# Altium integrated library Linear Technology Operational Amplifiers (LT1000).IntLib: 2280 symbols (part 50 of 79)
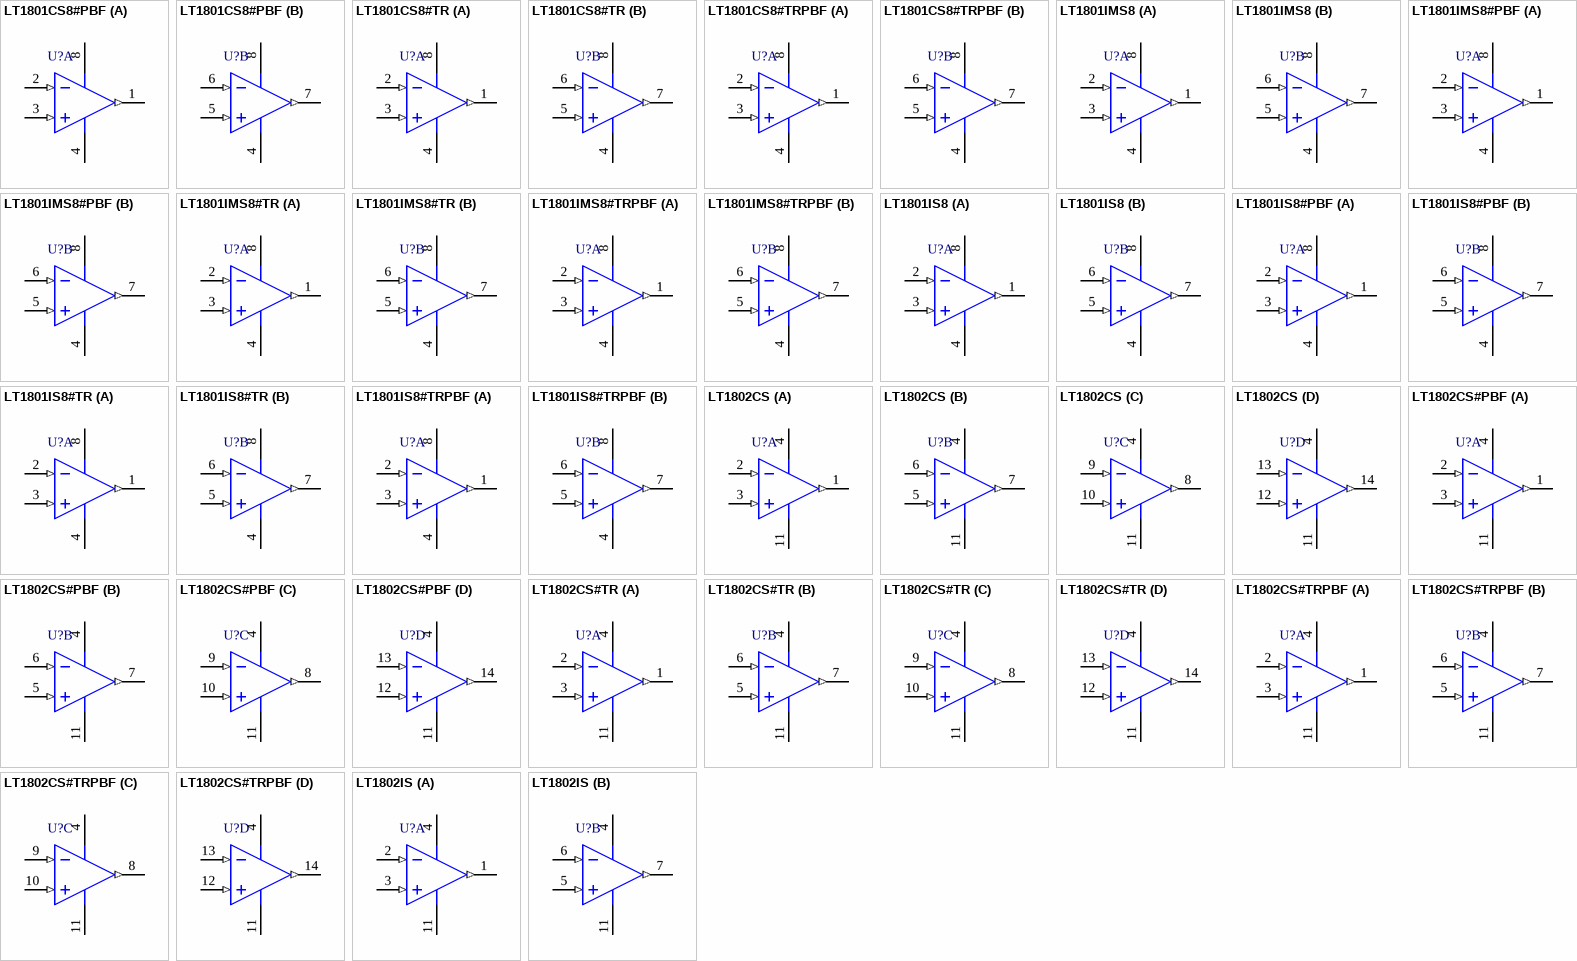
[diagram p154: symbols LT1801CS8#PBF to LT1802IS]

## LT1802CS
designator U?
Quad Channel, High Speed / Power, Precision Operational Amplifier, RRIO, 80 MHz Typical GBW, 25 V/us Typical SR, 2.3 to 12.6 V, 14-Pin SOIC (S-14), Commercial; Linear Technology Part Number: LT1802; Manufacturer: Linear Technology; PartNumber: LT1802CS; Channels (#): 4; GBW (MHz) Typical: 80; Is (mA) Typical: 1.6; SR (V/us) Typical: 25; Vos (mV) Guaranteed: 0.35; Vos (mV) Typical: 0.075; Vs Max (V): 12.6; Vs Min (V): 2.3; DatasheetVersion: Rev. C; PackageVersion: Rev G; PackageReference: LT-S-14; PackageDescription: 14-Lead Plastic Small Outline, Body 8.65 x 3.90 mm, Pitch 1.27 mm; Supplier 1: Digi-Key; Supplier Part Number 1: LT1802CS-ND; Type: VFB; Mounting Technology: Surface Mount; ComponentLink1Description: Manufacturer URL; ComponentLink1URL: http://www.linear.com/; ComponentLink2Description: Datasheet; ComponentLink2URL: http://cds.linear.com/docs/en/datasheet/18012fc.pdf; ComponentLink3Description: Package Specification; ComponentLink3URL: http://cds.linear.com/docs/en/packaging/05081610_G_S14.pdf
footprint LT-S-14_N (SOIC, 14-Leads, Body 8.65x3.90mm, Pitch 1.27mm, IPC Medium Density)
footprint LT-S-14_L (SOIC, 14-Leads, Body 8.65x3.90mm, Pitch 1.27mm, IPC High Density)
footprint LT-S-14_M (SOIC, 14-Leads, Body 8.65x3.90mm, Pitch 1.27mm, IPC Low Density)
pins on every part: 4 V+ (power), 11 V- (power)
part A pins: 1 OUT A (out), 2 -IN A (in), 3 +IN A (in)
part B pins: 5 +IN B (in), 6 -IN B (in), 7 OUT B (out)
part C pins: 8 OUT C (out), 9 -IN C (in), 10 +IN C (in)
part D pins: 12 +IN D (in), 13 -IN D (in), 14 OUT D (out)

## LT1802CS#PBF
designator U?
Quad Channel, High Speed / Power, Precision Operational Amplifier, RRIO, 80 MHz Typical GBW, 25 V/us Typical SR, 2.3 to 12.6 V, 14-Pin SOIC (S-14), Commercial, Pb-Free; Linear Technology Part Number: LT1802; Manufacturer: Linear Technology; PartNumber: LT1802CS#PBF; Channels (#): 4; GBW (MHz) Typical: 80; Is (mA) Typical: 1.6; SR (V/us) Typical: 25; Vos (mV) Guaranteed: 0.35; Vos (mV) Typical: 0.075; Vs Max (V): 12.6; Vs Min (V): 2.3; DatasheetVersion: Rev. C; PackageVersion: Rev G; PackageReference: LT-S-14; PackageDescription: 14-Lead Plastic Small Outline, Body 8.65 x 3.90 mm, Pitch 1.27 mm; Supplier 1: Digi-Key; Supplier Part Number 1: LT1802CS#PBF-ND; Supplier 2: Newark; Supplier Part Number 2: 57M6763; RoHS: Pb-Free; Type: VFB; Mounting Technology: Surface Mount; ComponentLink1Description: Manufacturer URL; ComponentLink1URL: http://www.linear.com/; ComponentLink2Description: Datasheet; ComponentLink2URL: http://cds.linear.com/docs/en/datasheet/18012fc.pdf; ComponentLink3Description: Package Specification; ComponentLink3URL: http://cds.linear.com/docs/en/packaging/05081610_G_S14.pdf
footprint LT-S-14_N (SOIC, 14-Leads, Body 8.65x3.90mm, Pitch 1.27mm, IPC Medium Density)
footprint LT-S-14_L (SOIC, 14-Leads, Body 8.65x3.90mm, Pitch 1.27mm, IPC High Density)
footprint LT-S-14_M (SOIC, 14-Leads, Body 8.65x3.90mm, Pitch 1.27mm, IPC Low Density)
pins on every part: 4 V+ (power), 11 V- (power)
part A pins: 1 OUT A (out), 2 -IN A (in), 3 +IN A (in)
part B pins: 5 +IN B (in), 6 -IN B (in), 7 OUT B (out)
part C pins: 8 OUT C (out), 9 -IN C (in), 10 +IN C (in)
part D pins: 12 +IN D (in), 13 -IN D (in), 14 OUT D (out)

## LT1802CS#TR
designator U?
Quad Channel, High Speed / Power, Precision Operational Amplifier, RRIO, 80 MHz Typical GBW, 25 V/us Typical SR, 2.3 to 12.6 V, 14-Pin SOIC (S-14), Commercial, Reel; Linear Technology Part Number: LT1802; Manufacturer: Linear Technology; PartNumber: LT1802CS#TR; Channels (#): 4; GBW (MHz) Typical: 80; Is (mA) Typical: 1.6; SR (V/us) Typical: 25; Vos (mV) Guaranteed: 0.35; Vos (mV) Typical: 0.075; Vs Max (V): 12.6; Vs Min (V): 2.3; DatasheetVersion: Rev. C; PackageVersion: Rev G; PackageReference: LT-S-14; PackageDescription: 14-Lead Plastic Small Outline, Body 8.65 x 3.90 mm, Pitch 1.27 mm; Supplier 1: Digi-Key; Supplier Part Number 1: LT1802CSTR-ND; Packing: Reel; Type: VFB; Mounting Technology: Surface Mount; ComponentLink1Description: Manufacturer URL; ComponentLink1URL: http://www.linear.com/; ComponentLink2Description: Datasheet; ComponentLink2URL: http://cds.linear.com/docs/en/datasheet/18012fc.pdf; ComponentLink3Description: Package Specification; ComponentLink3URL: http://cds.linear.com/docs/en/packaging/05081610_G_S14.pdf
footprint LT-S-14_N (SOIC, 14-Leads, Body 8.65x3.90mm, Pitch 1.27mm, IPC Medium Density)
footprint LT-S-14_L (SOIC, 14-Leads, Body 8.65x3.90mm, Pitch 1.27mm, IPC High Density)
footprint LT-S-14_M (SOIC, 14-Leads, Body 8.65x3.90mm, Pitch 1.27mm, IPC Low Density)
pins on every part: 4 V+ (power), 11 V- (power)
part A pins: 1 OUT A (out), 2 -IN A (in), 3 +IN A (in)
part B pins: 5 +IN B (in), 6 -IN B (in), 7 OUT B (out)
part C pins: 8 OUT C (out), 9 -IN C (in), 10 +IN C (in)
part D pins: 12 +IN D (in), 13 -IN D (in), 14 OUT D (out)

## LT1802CS#TRPBF
designator U?
Quad Channel, High Speed / Power, Precision Operational Amplifier, RRIO, 80 MHz Typical GBW, 25 V/us Typical SR, 2.3 to 12.6 V, 14-Pin SOIC (S-14), Commercial, Pb-Free, Reel; Linear Technology Part Number: LT1802; Manufacturer: Linear Technology; PartNumber: LT1802CS#TRPBF; Channels (#): 4; GBW (MHz) Typical: 80; Is (mA) Typical: 1.6; SR (V/us) Typical: 25; Vos (mV) Guaranteed: 0.35; Vos (mV) Typical: 0.075; Vs Max (V): 12.6; Vs Min (V): 2.3; DatasheetVersion: Rev. C; PackageVersion: Rev G; PackageReference: LT-S-14; PackageDescription: 14-Lead Plastic Small Outline, Body 8.65 x 3.90 mm, Pitch 1.27 mm; Supplier 1: Digi-Key; Supplier Part Number 1: LT1802CS#TRPBF-ND; Packing: Reel; RoHS: Pb-Free; Type: VFB; Mounting Technology: Surface Mount; ComponentLink1Description: Manufacturer URL; ComponentLink1URL: http://www.linear.com/; ComponentLink2Description: Datasheet; ComponentLink2URL: http://cds.linear.com/docs/en/datasheet/18012fc.pdf; ComponentLink3Description: Package Specification; ComponentLink3URL: http://cds.linear.com/docs/en/packaging/05081610_G_S14.pdf
footprint LT-S-14_N (SOIC, 14-Leads, Body 8.65x3.90mm, Pitch 1.27mm, IPC Medium Density)
footprint LT-S-14_L (SOIC, 14-Leads, Body 8.65x3.90mm, Pitch 1.27mm, IPC High Density)
footprint LT-S-14_M (SOIC, 14-Leads, Body 8.65x3.90mm, Pitch 1.27mm, IPC Low Density)
pins on every part: 4 V+ (power), 11 V- (power)
part A pins: 1 OUT A (out), 2 -IN A (in), 3 +IN A (in)
part B pins: 5 +IN B (in), 6 -IN B (in), 7 OUT B (out)
part C pins: 8 OUT C (out), 9 -IN C (in), 10 +IN C (in)
part D pins: 12 +IN D (in), 13 -IN D (in), 14 OUT D (out)

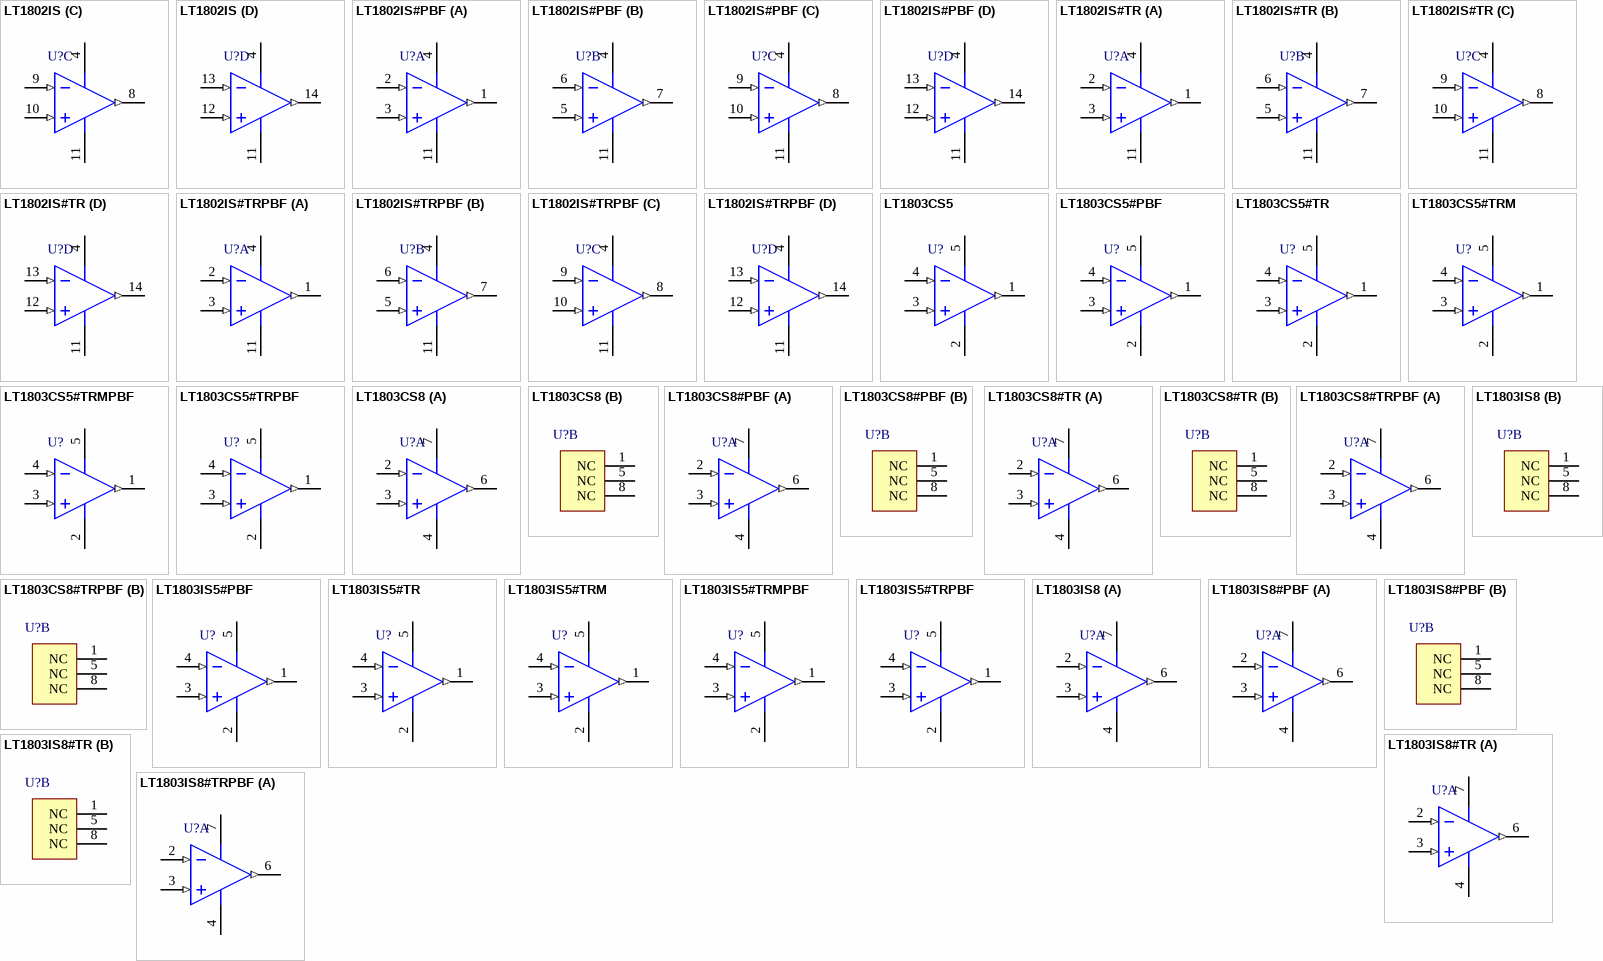
[diagram p77: symbols LT1802IS to LT1803IS8#TRPBF]

## LT1802IS
designator U?
Quad Channel, High Speed / Power, Precision Operational Amplifier, RRIO, 80 MHz Typical GBW, 25 V/us Typical SR, 2.3 to 12.6 V, 14-Pin SOIC (S-14), Industrial; Linear Technology Part Number: LT1802; Manufacturer: Linear Technology; PartNumber: LT1802IS; Channels (#): 4; GBW (MHz) Typical: 80; Is (mA) Typical: 1.6; SR (V/us) Typical: 25; Vos (mV) Guaranteed: 0.35; Vos (mV) Typical: 0.075; Vs Max (V): 12.6; Vs Min (V): 2.3; DatasheetVersion: Rev. C; PackageVersion: Rev G; PackageReference: LT-S-14; PackageDescription: 14-Lead Plastic Small Outline, Body 8.65 x 3.90 mm, Pitch 1.27 mm; Supplier 1: Digi-Key; Supplier Part Number 1: LT1802IS-ND; Type: VFB; Mounting Technology: Surface Mount; ComponentLink1Description: Manufacturer URL; ComponentLink1URL: http://www.linear.com/; ComponentLink2Description: Datasheet; ComponentLink2URL: http://cds.linear.com/docs/en/datasheet/18012fc.pdf; ComponentLink3Description: Package Specification; ComponentLink3URL: http://cds.linear.com/docs/en/packaging/05081610_G_S14.pdf
footprint LT-S-14_N (SOIC, 14-Leads, Body 8.65x3.90mm, Pitch 1.27mm, IPC Medium Density)
footprint LT-S-14_L (SOIC, 14-Leads, Body 8.65x3.90mm, Pitch 1.27mm, IPC High Density)
footprint LT-S-14_M (SOIC, 14-Leads, Body 8.65x3.90mm, Pitch 1.27mm, IPC Low Density)
pins on every part: 4 V+ (power), 11 V- (power)
part A pins: 1 OUT A (out), 2 -IN A (in), 3 +IN A (in)
part B pins: 5 +IN B (in), 6 -IN B (in), 7 OUT B (out)
part C pins: 8 OUT C (out), 9 -IN C (in), 10 +IN C (in)
part D pins: 12 +IN D (in), 13 -IN D (in), 14 OUT D (out)

## LT1802IS#PBF
designator U?
Quad Channel, High Speed / Power, Precision Operational Amplifier, RRIO, 80 MHz Typical GBW, 25 V/us Typical SR, 2.3 to 12.6 V, 14-Pin SOIC (S-14), Industrial, Pb-Free; Linear Technology Part Number: LT1802; Manufacturer: Linear Technology; PartNumber: LT1802IS#PBF; Channels (#): 4; GBW (MHz) Typical: 80; Is (mA) Typical: 1.6; SR (V/us) Typical: 25; Vos (mV) Guaranteed: 0.35; Vos (mV) Typical: 0.075; Vs Max (V): 12.6; Vs Min (V): 2.3; DatasheetVersion: Rev. C; PackageVersion: Rev G; PackageReference: LT-S-14; PackageDescription: 14-Lead Plastic Small Outline, Body 8.65 x 3.90 mm, Pitch 1.27 mm; Supplier 1: Digi-Key; Supplier Part Number 1: LT1802IS#PBF-ND; Supplier 2: Newark; Supplier Part Number 2: 57M6767; RoHS: Pb-Free; Type: VFB; Mounting Technology: Surface Mount; ComponentLink1Description: Manufacturer URL; ComponentLink1URL: http://www.linear.com/; ComponentLink2Description: Datasheet; ComponentLink2URL: http://cds.linear.com/docs/en/datasheet/18012fc.pdf; ComponentLink3Description: Package Specification; ComponentLink3URL: http://cds.linear.com/docs/en/packaging/05081610_G_S14.pdf
footprint LT-S-14_N (SOIC, 14-Leads, Body 8.65x3.90mm, Pitch 1.27mm, IPC Medium Density)
footprint LT-S-14_L (SOIC, 14-Leads, Body 8.65x3.90mm, Pitch 1.27mm, IPC High Density)
footprint LT-S-14_M (SOIC, 14-Leads, Body 8.65x3.90mm, Pitch 1.27mm, IPC Low Density)
pins on every part: 4 V+ (power), 11 V- (power)
part A pins: 1 OUT A (out), 2 -IN A (in), 3 +IN A (in)
part B pins: 5 +IN B (in), 6 -IN B (in), 7 OUT B (out)
part C pins: 8 OUT C (out), 9 -IN C (in), 10 +IN C (in)
part D pins: 12 +IN D (in), 13 -IN D (in), 14 OUT D (out)

## LT1802IS#TR
designator U?
Quad Channel, High Speed / Power, Precision Operational Amplifier, RRIO, 80 MHz Typical GBW, 25 V/us Typical SR, 2.3 to 12.6 V, 14-Pin SOIC (S-14), Industrial, Reel; Linear Technology Part Number: LT1802; Manufacturer: Linear Technology; PartNumber: LT1802IS#TR; Channels (#): 4; GBW (MHz) Typical: 80; Is (mA) Typical: 1.6; SR (V/us) Typical: 25; Vos (mV) Guaranteed: 0.35; Vos (mV) Typical: 0.075; Vs Max (V): 12.6; Vs Min (V): 2.3; DatasheetVersion: Rev. C; PackageVersion: Rev G; PackageReference: LT-S-14; PackageDescription: 14-Lead Plastic Small Outline, Body 8.65 x 3.90 mm, Pitch 1.27 mm; Supplier 1: Digi-Key; Supplier Part Number 1: LT1802ISTR-ND; Packing: Reel; Type: VFB; Mounting Technology: Surface Mount; ComponentLink1Description: Manufacturer URL; ComponentLink1URL: http://www.linear.com/; ComponentLink2Description: Datasheet; ComponentLink2URL: http://cds.linear.com/docs/en/datasheet/18012fc.pdf; ComponentLink3Description: Package Specification; ComponentLink3URL: http://cds.linear.com/docs/en/packaging/05081610_G_S14.pdf
footprint LT-S-14_N (SOIC, 14-Leads, Body 8.65x3.90mm, Pitch 1.27mm, IPC Medium Density)
footprint LT-S-14_L (SOIC, 14-Leads, Body 8.65x3.90mm, Pitch 1.27mm, IPC High Density)
footprint LT-S-14_M (SOIC, 14-Leads, Body 8.65x3.90mm, Pitch 1.27mm, IPC Low Density)
pins on every part: 4 V+ (power), 11 V- (power)
part A pins: 1 OUT A (out), 2 -IN A (in), 3 +IN A (in)
part B pins: 5 +IN B (in), 6 -IN B (in), 7 OUT B (out)
part C pins: 8 OUT C (out), 9 -IN C (in), 10 +IN C (in)
part D pins: 12 +IN D (in), 13 -IN D (in), 14 OUT D (out)

## LT1802IS#TRPBF
designator U?
Quad Channel, High Speed / Power, Precision Operational Amplifier, RRIO, 80 MHz Typical GBW, 25 V/us Typical SR, 2.3 to 12.6 V, 14-Pin SOIC (S-14), Industrial, Pb-Free, Reel; Linear Technology Part Number: LT1802; Manufacturer: Linear Technology; PartNumber: LT1802IS#TRPBF; Channels (#): 4; GBW (MHz) Typical: 80; Is (mA) Typical: 1.6; SR (V/us) Typical: 25; Vos (mV) Guaranteed: 0.35; Vos (mV) Typical: 0.075; Vs Max (V): 12.6; Vs Min (V): 2.3; DatasheetVersion: Rev. C; PackageVersion: Rev G; PackageReference: LT-S-14; PackageDescription: 14-Lead Plastic Small Outline, Body 8.65 x 3.90 mm, Pitch 1.27 mm; Supplier 1: Digi-Key; Supplier Part Number 1: LT1802IS#TRPBF-ND; Supplier 2: Newark; Supplier Part Number 2: 57M6769; Packing: Reel; RoHS: Pb-Free; Type: VFB; Mounting Technology: Surface Mount; ComponentLink1Description: Manufacturer URL; ComponentLink1URL: http://www.linear.com/; ComponentLink2Description: Datasheet; ComponentLink2URL: http://cds.linear.com/docs/en/datasheet/18012fc.pdf; ComponentLink3Description: Package Specification; ComponentLink3URL: http://cds.linear.com/docs/en/packaging/05081610_G_S14.pdf
footprint LT-S-14_N (SOIC, 14-Leads, Body 8.65x3.90mm, Pitch 1.27mm, IPC Medium Density)
footprint LT-S-14_L (SOIC, 14-Leads, Body 8.65x3.90mm, Pitch 1.27mm, IPC High Density)
footprint LT-S-14_M (SOIC, 14-Leads, Body 8.65x3.90mm, Pitch 1.27mm, IPC Low Density)
pins on every part: 4 V+ (power), 11 V- (power)
part A pins: 1 OUT A (out), 2 -IN A (in), 3 +IN A (in)
part B pins: 5 +IN B (in), 6 -IN B (in), 7 OUT B (out)
part C pins: 8 OUT C (out), 9 -IN C (in), 10 +IN C (in)
part D pins: 12 +IN D (in), 13 -IN D (in), 14 OUT D (out)

## LT1803CS5
designator U?
Single Channel, High Speed Precision Operational Amplifier, RRIO, 83 MHz Typical GBW, 100 V/us Typical SR, 2.3 to 12.6 V, 5-Pin SOT23 (S5-5), Commercial; Linear Technology Part Number: LT1803; Manufacturer: Linear Technology; PartNumber: LT1803CS5; Channels (#): 1; GBW (MHz) Typical: 83; Is (mA) Typical: 2.7; SR (V/us) Typical: 100; Vos (mV) Guaranteed: 2; Vos (mV) Typical: 0.35; Vs Max (V): 12.6; Vs Min (V): 2.3; PackageReference: LT-S5-5-TSOT-23; PackageDescription: 5-Lead Plastic TSOT-23, Body 1.63 x 2.90 mm, Pitch 0.95 mm; Type: VFB; Mounting Technology: Surface Mount; Code_JEDEC: MO-193; ComponentLink1Description: Manufacturer URL; ComponentLink1URL: http://www.linear.com/; ComponentLink2Description: Datasheet; ComponentLink2URL: http://cds.linear.com/docs/en/datasheet/180345f.pdf; ComponentLink3Description: Package Specification; ComponentLink3URL: http://cds.linear.com/docs/en/packaging/SOT_5_05-08-1635.pdf
footprint LT-S5-5-TSOT-23_N (SOT23, 5-Leads, Body 2.90x1.63mm, Pitch 0.95mm, IPC Medium Density)
footprint LT-S5-5-TSOT-23_L (SOT23, 5-Leads, Body 2.90x1.63mm, Pitch 0.95mm, IPC High Density)
footprint LT-S5-5-TSOT-23_M (SOT23, 5-Leads, Body 2.90x1.63mm, Pitch 0.95mm, IPC Low Density)
pins: 1 VOUT (out) "Output.", 2 V- (power) "Negative Supply Voltage, Usually -5V.", 3 +IN (in) "Noninverting Input.", 4 -IN (in) "Inverting Input.", 5 V+ (power) "Positive Supply Voltage, Usually 5V."

## LT1803CS5#PBF
designator U?
Single Channel, High Speed Precision Operational Amplifier, RRIO, 83 MHz Typical GBW, 100 V/us Typical SR, 2.3 to 12.6 V, 5-Pin SOT23 (S5-5), Commercial, Pb-Free; Linear Technology Part Number: LT1803; Manufacturer: Linear Technology; PartNumber: LT1803CS5#PBF; Channels (#): 1; GBW (MHz) Typical: 83; Is (mA) Typical: 2.7; SR (V/us) Typical: 100; Vos (mV) Guaranteed: 2; Vos (mV) Typical: 0.35; Vs Max (V): 12.6; Vs Min (V): 2.3; PackageReference: LT-S5-5-TSOT-23; PackageDescription: 5-Lead Plastic TSOT-23, Body 1.63 x 2.90 mm, Pitch 0.95 mm; RoHS: Pb-Free; Type: VFB; Mounting Technology: Surface Mount; Code_JEDEC: MO-193; ComponentLink1Description: Manufacturer URL; ComponentLink1URL: http://www.linear.com/; ComponentLink2Description: Datasheet; ComponentLink2URL: http://cds.linear.com/docs/en/datasheet/180345f.pdf; ComponentLink3Description: Package Specification; ComponentLink3URL: http://cds.linear.com/docs/en/packaging/SOT_5_05-08-1635.pdf
footprint LT-S5-5-TSOT-23_N (SOT23, 5-Leads, Body 2.90x1.63mm, Pitch 0.95mm, IPC Medium Density)
footprint LT-S5-5-TSOT-23_L (SOT23, 5-Leads, Body 2.90x1.63mm, Pitch 0.95mm, IPC High Density)
footprint LT-S5-5-TSOT-23_M (SOT23, 5-Leads, Body 2.90x1.63mm, Pitch 0.95mm, IPC Low Density)
pins: 1 VOUT (out) "Output.", 2 V- (power) "Negative Supply Voltage, Usually -5V.", 3 +IN (in) "Noninverting Input.", 4 -IN (in) "Inverting Input.", 5 V+ (power) "Positive Supply Voltage, Usually 5V."

## LT1803CS5#TR
designator U?
Single Channel, High Speed Precision Operational Amplifier, RRIO, 83 MHz Typical GBW, 100 V/us Typical SR, 2.3 to 12.6 V, 5-Pin SOT23 (S5-5), Commercial, Reel; Linear Technology Part Number: LT1803; Manufacturer: Linear Technology; PartNumber: LT1803CS5#TR; Channels (#): 1; GBW (MHz) Typical: 83; Is (mA) Typical: 2.7; SR (V/us) Typical: 100; Vos (mV) Guaranteed: 2; Vos (mV) Typical: 0.35; Vs Max (V): 12.6; Vs Min (V): 2.3; PackageReference: LT-S5-5-TSOT-23; PackageDescription: 5-Lead Plastic TSOT-23, Body 1.63 x 2.90 mm, Pitch 0.95 mm; Supplier 1: Digi-Key; Supplier Part Number 1: LT1803CS5#TR-ND; Packing: Reel; Type: VFB; Mounting Technology: Surface Mount; Code_JEDEC: MO-193; ComponentLink1Description: Manufacturer URL; ComponentLink1URL: http://www.linear.com/; ComponentLink2Description: Datasheet; ComponentLink2URL: http://cds.linear.com/docs/en/datasheet/180345f.pdf; ComponentLink3Description: Package Specification; ComponentLink3URL: http://cds.linear.com/docs/en/packaging/SOT_5_05-08-1635.pdf
footprint LT-S5-5-TSOT-23_N (SOT23, 5-Leads, Body 2.90x1.63mm, Pitch 0.95mm, IPC Medium Density)
footprint LT-S5-5-TSOT-23_L (SOT23, 5-Leads, Body 2.90x1.63mm, Pitch 0.95mm, IPC High Density)
footprint LT-S5-5-TSOT-23_M (SOT23, 5-Leads, Body 2.90x1.63mm, Pitch 0.95mm, IPC Low Density)
pins: 1 VOUT (out) "Output.", 2 V- (power) "Negative Supply Voltage, Usually -5V.", 3 +IN (in) "Noninverting Input.", 4 -IN (in) "Inverting Input.", 5 V+ (power) "Positive Supply Voltage, Usually 5V."

## LT1803CS5#TRM
designator U?
Single Channel, High Speed Precision Operational Amplifier, RRIO, 83 MHz Typical GBW, 100 V/us Typical SR, 2.3 to 12.6 V, 5-Pin SOT23 (S5-5), Commercial, Mini Reel; Linear Technology Part Number: LT1803; Manufacturer: Linear Technology; PartNumber: LT1803CS5#TRM; Channels (#): 1; GBW (MHz) Typical: 83; Is (mA) Typical: 2.7; SR (V/us) Typical: 100; Vos (mV) Guaranteed: 2; Vos (mV) Typical: 0.35; Vs Max (V): 12.6; Vs Min (V): 2.3; PackageReference: LT-S5-5-TSOT-23; PackageDescription: 5-Lead Plastic TSOT-23, Body 1.63 x 2.90 mm, Pitch 0.95 mm; Supplier 1: Digi-Key; Supplier Part Number 1: LT1803CS5#TRMTR-ND; Supplier 2: Digi-Key; Supplier Part Number 2: LT1803CS5#TRMCT-ND; Packing: Mini Reel; Type: VFB; Mounting Technology: Surface Mount; Code_JEDEC: MO-193; ComponentLink1Description: Manufacturer URL; ComponentLink1URL: http://www.linear.com/; ComponentLink2Description: Datasheet; ComponentLink2URL: http://cds.linear.com/docs/en/datasheet/180345f.pdf; ComponentLink3Description: Package Specification; ComponentLink3URL: http://cds.linear.com/docs/en/packaging/SOT_5_05-08-1635.pdf
footprint LT-S5-5-TSOT-23_N (SOT23, 5-Leads, Body 2.90x1.63mm, Pitch 0.95mm, IPC Medium Density)
footprint LT-S5-5-TSOT-23_L (SOT23, 5-Leads, Body 2.90x1.63mm, Pitch 0.95mm, IPC High Density)
footprint LT-S5-5-TSOT-23_M (SOT23, 5-Leads, Body 2.90x1.63mm, Pitch 0.95mm, IPC Low Density)
pins: 1 VOUT (out) "Output.", 2 V- (power) "Negative Supply Voltage, Usually -5V.", 3 +IN (in) "Noninverting Input.", 4 -IN (in) "Inverting Input.", 5 V+ (power) "Positive Supply Voltage, Usually 5V."

## LT1803CS5#TRMPBF
designator U?
Single Channel, High Speed Precision Operational Amplifier, RRIO, 83 MHz Typical GBW, 100 V/us Typical SR, 2.3 to 12.6 V, 5-Pin SOT23 (S5-5), Commercial, Pb-Free, Mini Reel; Linear Technology Part Number: LT1803; Manufacturer: Linear Technology; PartNumber: LT1803CS5#TRMPBF; Channels (#): 1; GBW (MHz) Typical: 83; Is (mA) Typical: 2.7; SR (V/us) Typical: 100; Vos (mV) Guaranteed: 2; Vos (mV) Typical: 0.35; Vs Max (V): 12.6; Vs Min (V): 2.3; PackageReference: LT-S5-5-TSOT-23; PackageDescription: 5-Lead Plastic TSOT-23, Body 1.63 x 2.90 mm, Pitch 0.95 mm; Supplier 1: Digi-Key; Supplier Part Number 1: LT1803CS5#TRMPBFTR-ND; Supplier 2: Digi-Key; Supplier Part Number 2: LT1803CS5#TRMPBFCT-ND; Supplier 3: Digi-Key; Supplier Part Number 3: LT1803CS5#TRMPBFDKR-ND; Supplier 4: Farnell; Supplier Part Number 4: 1663797; Supplier 5: Newark; Supplier Part Number 5: 57M6772; Packing: Mini Reel; RoHS: Pb-Free; Type: VFB; Mounting Technology: Surface Mount; Code_JEDEC: MO-193; ComponentLink1Description: Manufacturer URL; ComponentLink1URL: http://www.linear.com/; ComponentLink2Description: Datasheet; ComponentLink2URL: http://cds.linear.com/docs/en/datasheet/180345f.pdf; ComponentLink3Description: Package Specification; ComponentLink3URL: http://cds.linear.com/docs/en/packaging/SOT_5_05-08-1635.pdf
footprint LT-S5-5-TSOT-23_N (SOT23, 5-Leads, Body 2.90x1.63mm, Pitch 0.95mm, IPC Medium Density)
footprint LT-S5-5-TSOT-23_L (SOT23, 5-Leads, Body 2.90x1.63mm, Pitch 0.95mm, IPC High Density)
footprint LT-S5-5-TSOT-23_M (SOT23, 5-Leads, Body 2.90x1.63mm, Pitch 0.95mm, IPC Low Density)
pins: 1 VOUT (out) "Output.", 2 V- (power) "Negative Supply Voltage, Usually -5V.", 3 +IN (in) "Noninverting Input.", 4 -IN (in) "Inverting Input.", 5 V+ (power) "Positive Supply Voltage, Usually 5V."

## LT1803CS5#TRPBF
designator U?
Single Channel, High Speed Precision Operational Amplifier, RRIO, 83 MHz Typical GBW, 100 V/us Typical SR, 2.3 to 12.6 V, 5-Pin SOT23 (S5-5), Commercial, Pb-Free, Reel; Linear Technology Part Number: LT1803; Manufacturer: Linear Technology; PartNumber: LT1803CS5#TRPBF; Channels (#): 1; GBW (MHz) Typical: 83; Is (mA) Typical: 2.7; SR (V/us) Typical: 100; Vos (mV) Guaranteed: 2; Vos (mV) Typical: 0.35; Vs Max (V): 12.6; Vs Min (V): 2.3; PackageReference: LT-S5-5-TSOT-23; PackageDescription: 5-Lead Plastic TSOT-23, Body 1.63 x 2.90 mm, Pitch 0.95 mm; Supplier 1: Digi-Key; Supplier Part Number 1: LT1803CS5#TRPBF-ND; Packing: Reel; RoHS: Pb-Free; Type: VFB; Mounting Technology: Surface Mount; Code_JEDEC: MO-193; ComponentLink1Description: Manufacturer URL; ComponentLink1URL: http://www.linear.com/; ComponentLink2Description: Datasheet; ComponentLink2URL: http://cds.linear.com/docs/en/datasheet/180345f.pdf; ComponentLink3Description: Package Specification; ComponentLink3URL: http://cds.linear.com/docs/en/packaging/SOT_5_05-08-1635.pdf
footprint LT-S5-5-TSOT-23_N (SOT23, 5-Leads, Body 2.90x1.63mm, Pitch 0.95mm, IPC Medium Density)
footprint LT-S5-5-TSOT-23_L (SOT23, 5-Leads, Body 2.90x1.63mm, Pitch 0.95mm, IPC High Density)
footprint LT-S5-5-TSOT-23_M (SOT23, 5-Leads, Body 2.90x1.63mm, Pitch 0.95mm, IPC Low Density)
pins: 1 VOUT (out) "Output.", 2 V- (power) "Negative Supply Voltage, Usually -5V.", 3 +IN (in) "Noninverting Input.", 4 -IN (in) "Inverting Input.", 5 V+ (power) "Positive Supply Voltage, Usually 5V."

## LT1803CS8
designator U?
Single Channel, High Speed Precision Operational Amplifier, RRIO, 83 MHz Typical GBW, 100 V/us Typical SR, 2.3 to 12.6 V, 8-Pin SOIC (S8-8), Commercial; Linear Technology Part Number: LT1803; Manufacturer: Linear Technology; PartNumber: LT1803CS8; Channels (#): 1; GBW (MHz) Typical: 83; Is (mA) Typical: 2.7; SR (V/us) Typical: 100; Vos (mV) Guaranteed: 2; Vos (mV) Typical: 0.35; Vs Max (V): 12.6; Vs Min (V): 2.3; PackageVersion: Rev G; PackageReference: LT-S8-8; PackageDescription: 8-Pin Plastic Small Outline, Body 4.9 x 3.9 mm, Pitch 1.27 mm; Supplier 1: Digi-Key; Supplier Part Number 1: LT1803CS8-ND; Type: VFB; Mounting Technology: Surface Mount; ComponentLink1Description: Manufacturer URL; ComponentLink1URL: http://www.linear.com/; ComponentLink2Description: Datasheet; ComponentLink2URL: http://cds.linear.com/docs/en/datasheet/180345f.pdf; ComponentLink3Description: Package Specification; ComponentLink3URL: http://cds.linear.com/docs/en/packaging/05081610_G_SO8.pdf
footprint LT-S8-8_N (SOIC, 8-Leads, Body 4.9x3.9mm, Pitch 1.27mm, IPC Medium Density)
footprint LT-S8-8_L (SOIC, 8-Leads, Body 4.9x3.9mm, Pitch 1.27mm, IPC High Density)
footprint LT-S8-8_M (SOIC, 8-Leads, Body 4.9x3.9mm, Pitch 1.27mm, IPC Low Density)
part A pins: 2 -IN (in), 3 +IN (in), 4 V- (power), 6 VOUT (out), 7 V+ (power)
part B pins: 1 NC, 5 NC, 8 NC

## LT1803CS8#PBF
designator U?
Single Channel, High Speed Precision Operational Amplifier, RRIO, 83 MHz Typical GBW, 100 V/us Typical SR, 2.3 to 12.6 V, 8-Pin SOIC (S8-8), Commercial, Pb-Free; Linear Technology Part Number: LT1803; Manufacturer: Linear Technology; PartNumber: LT1803CS8#PBF; Channels (#): 1; GBW (MHz) Typical: 83; Is (mA) Typical: 2.7; SR (V/us) Typical: 100; Vos (mV) Guaranteed: 2; Vos (mV) Typical: 0.35; Vs Max (V): 12.6; Vs Min (V): 2.3; PackageVersion: Rev G; PackageReference: LT-S8-8; PackageDescription: 8-Pin Plastic Small Outline, Body 4.9 x 3.9 mm, Pitch 1.27 mm; Supplier 1: Digi-Key; Supplier Part Number 1: LT1803CS8#PBF-ND; RoHS: Pb-Free; Type: VFB; Mounting Technology: Surface Mount; ComponentLink1Description: Manufacturer URL; ComponentLink1URL: http://www.linear.com/; ComponentLink2Description: Datasheet; ComponentLink2URL: http://cds.linear.com/docs/en/datasheet/180345f.pdf; ComponentLink3Description: Package Specification; ComponentLink3URL: http://cds.linear.com/docs/en/packaging/05081610_G_SO8.pdf
footprint LT-S8-8_N (SOIC, 8-Leads, Body 4.9x3.9mm, Pitch 1.27mm, IPC Medium Density)
footprint LT-S8-8_L (SOIC, 8-Leads, Body 4.9x3.9mm, Pitch 1.27mm, IPC High Density)
footprint LT-S8-8_M (SOIC, 8-Leads, Body 4.9x3.9mm, Pitch 1.27mm, IPC Low Density)
part A pins: 2 -IN (in), 3 +IN (in), 4 V- (power), 6 VOUT (out), 7 V+ (power)
part B pins: 1 NC, 5 NC, 8 NC

## LT1803CS8#TR
designator U?
Single Channel, High Speed Precision Operational Amplifier, RRIO, 83 MHz Typical GBW, 100 V/us Typical SR, 2.3 to 12.6 V, 8-Pin SOIC (S8-8), Commercial, Reel; Linear Technology Part Number: LT1803; Manufacturer: Linear Technology; PartNumber: LT1803CS8#TR; Channels (#): 1; GBW (MHz) Typical: 83; Is (mA) Typical: 2.7; SR (V/us) Typical: 100; Vos (mV) Guaranteed: 2; Vos (mV) Typical: 0.35; Vs Max (V): 12.6; Vs Min (V): 2.3; PackageVersion: Rev G; PackageReference: LT-S8-8; PackageDescription: 8-Pin Plastic Small Outline, Body 4.9 x 3.9 mm, Pitch 1.27 mm; Supplier 1: Digi-Key; Supplier Part Number 1: LT1803CS8#TR-ND; Packing: Reel; Type: VFB; Mounting Technology: Surface Mount; ComponentLink1Description: Manufacturer URL; ComponentLink1URL: http://www.linear.com/; ComponentLink2Description: Datasheet; ComponentLink2URL: http://cds.linear.com/docs/en/datasheet/180345f.pdf; ComponentLink3Description: Package Specification; ComponentLink3URL: http://cds.linear.com/docs/en/packaging/05081610_G_SO8.pdf
footprint LT-S8-8_N (SOIC, 8-Leads, Body 4.9x3.9mm, Pitch 1.27mm, IPC Medium Density)
footprint LT-S8-8_L (SOIC, 8-Leads, Body 4.9x3.9mm, Pitch 1.27mm, IPC High Density)
footprint LT-S8-8_M (SOIC, 8-Leads, Body 4.9x3.9mm, Pitch 1.27mm, IPC Low Density)
part A pins: 2 -IN (in), 3 +IN (in), 4 V- (power), 6 VOUT (out), 7 V+ (power)
part B pins: 1 NC, 5 NC, 8 NC

## LT1803CS8#TRPBF
designator U?
Single Channel, High Speed Precision Operational Amplifier, RRIO, 83 MHz Typical GBW, 100 V/us Typical SR, 2.3 to 12.6 V, 8-Pin SOIC (S8-8), Commercial, Pb-Free, Reel; Linear Technology Part Number: LT1803; Manufacturer: Linear Technology; PartNumber: LT1803CS8#TRPBF; Channels (#): 1; GBW (MHz) Typical: 83; Is (mA) Typical: 2.7; SR (V/us) Typical: 100; Vos (mV) Guaranteed: 2; Vos (mV) Typical: 0.35; Vs Max (V): 12.6; Vs Min (V): 2.3; PackageVersion: Rev G; PackageReference: LT-S8-8; PackageDescription: 8-Pin Plastic Small Outline, Body 4.9 x 3.9 mm, Pitch 1.27 mm; Supplier 1: Digi-Key; Supplier Part Number 1: LT1803CS8#TRPBF-ND; Packing: Reel; RoHS: Pb-Free; Type: VFB; Mounting Technology: Surface Mount; ComponentLink1Description: Manufacturer URL; ComponentLink1URL: http://www.linear.com/; ComponentLink2Description: Datasheet; ComponentLink2URL: http://cds.linear.com/docs/en/datasheet/180345f.pdf; ComponentLink3Description: Package Specification; ComponentLink3URL: http://cds.linear.com/docs/en/packaging/05081610_G_SO8.pdf
footprint LT-S8-8_N (SOIC, 8-Leads, Body 4.9x3.9mm, Pitch 1.27mm, IPC Medium Density)
footprint LT-S8-8_L (SOIC, 8-Leads, Body 4.9x3.9mm, Pitch 1.27mm, IPC High Density)
footprint LT-S8-8_M (SOIC, 8-Leads, Body 4.9x3.9mm, Pitch 1.27mm, IPC Low Density)
part A pins: 2 -IN (in), 3 +IN (in), 4 V- (power), 6 VOUT (out), 7 V+ (power)
part B pins: 1 NC, 5 NC, 8 NC

## LT1803IS5#PBF
designator U?
Single Channel, High Speed Precision Operational Amplifier, RRIO, 83 MHz Typical GBW, 100 V/us Typical SR, 2.3 to 12.6 V, 5-Pin SOT23 (S5-5), Industrial, Pb-Free; Linear Technology Part Number: LT1803; Manufacturer: Linear Technology; PartNumber: LT1803IS5#PBF; Channels (#): 1; GBW (MHz) Typical: 83; Is (mA) Typical: 2.7; SR (V/us) Typical: 100; Vos (mV) Guaranteed: 2; Vos (mV) Typical: 0.35; Vs Max (V): 12.6; Vs Min (V): 2.3; PackageReference: LT-S5-5-TSOT-23; PackageDescription: 5-Lead Plastic TSOT-23, Body 1.63 x 2.90 mm, Pitch 0.95 mm; Supplier 1: Farnell; Supplier Part Number 1: 2294684; RoHS: Pb-Free; Type: VFB; Mounting Technology: Surface Mount; Code_JEDEC: MO-193; ComponentLink1Description: Manufacturer URL; ComponentLink1URL: http://www.linear.com/; ComponentLink2Description: Datasheet; ComponentLink2URL: http://cds.linear.com/docs/en/datasheet/180345f.pdf; ComponentLink3Description: Package Specification; ComponentLink3URL: http://cds.linear.com/docs/en/packaging/SOT_5_05-08-1635.pdf
footprint LT-S5-5-TSOT-23_N (SOT23, 5-Leads, Body 2.90x1.63mm, Pitch 0.95mm, IPC Medium Density)
footprint LT-S5-5-TSOT-23_L (SOT23, 5-Leads, Body 2.90x1.63mm, Pitch 0.95mm, IPC High Density)
footprint LT-S5-5-TSOT-23_M (SOT23, 5-Leads, Body 2.90x1.63mm, Pitch 0.95mm, IPC Low Density)
pins: 1 VOUT (out) "Output.", 2 V- (power) "Negative Supply Voltage, Usually -5V.", 3 +IN (in) "Noninverting Input.", 4 -IN (in) "Inverting Input.", 5 V+ (power) "Positive Supply Voltage, Usually 5V."

## LT1803IS5#TR
designator U?
Single Channel, High Speed Precision Operational Amplifier, RRIO, 83 MHz Typical GBW, 100 V/us Typical SR, 2.3 to 12.6 V, 5-Pin SOT23 (S5-5), Industrial, Reel; Linear Technology Part Number: LT1803; Manufacturer: Linear Technology; PartNumber: LT1803IS5#TR; Channels (#): 1; GBW (MHz) Typical: 83; Is (mA) Typical: 2.7; SR (V/us) Typical: 100; Vos (mV) Guaranteed: 2; Vos (mV) Typical: 0.35; Vs Max (V): 12.6; Vs Min (V): 2.3; PackageReference: LT-S5-5-TSOT-23; PackageDescription: 5-Lead Plastic TSOT-23, Body 1.63 x 2.90 mm, Pitch 0.95 mm; Supplier 1: Digi-Key; Supplier Part Number 1: LT1803IS5#TR-ND; Packing: Reel; Type: VFB; Mounting Technology: Surface Mount; Code_JEDEC: MO-193; ComponentLink1Description: Manufacturer URL; ComponentLink1URL: http://www.linear.com/; ComponentLink2Description: Datasheet; ComponentLink2URL: http://cds.linear.com/docs/en/datasheet/180345f.pdf; ComponentLink3Description: Package Specification; ComponentLink3URL: http://cds.linear.com/docs/en/packaging/SOT_5_05-08-1635.pdf
footprint LT-S5-5-TSOT-23_N (SOT23, 5-Leads, Body 2.90x1.63mm, Pitch 0.95mm, IPC Medium Density)
footprint LT-S5-5-TSOT-23_L (SOT23, 5-Leads, Body 2.90x1.63mm, Pitch 0.95mm, IPC High Density)
footprint LT-S5-5-TSOT-23_M (SOT23, 5-Leads, Body 2.90x1.63mm, Pitch 0.95mm, IPC Low Density)
pins: 1 VOUT (out) "Output.", 2 V- (power) "Negative Supply Voltage, Usually -5V.", 3 +IN (in) "Noninverting Input.", 4 -IN (in) "Inverting Input.", 5 V+ (power) "Positive Supply Voltage, Usually 5V."

## LT1803IS5#TRM
designator U?
Single Channel, High Speed Precision Operational Amplifier, RRIO, 83 MHz Typical GBW, 100 V/us Typical SR, 2.3 to 12.6 V, 5-Pin SOT23 (S5-5), Industrial, Mini Reel; Linear Technology Part Number: LT1803; Manufacturer: Linear Technology; PartNumber: LT1803IS5#TRM; Channels (#): 1; GBW (MHz) Typical: 83; Is (mA) Typical: 2.7; SR (V/us) Typical: 100; Vos (mV) Guaranteed: 2; Vos (mV) Typical: 0.35; Vs Max (V): 12.6; Vs Min (V): 2.3; PackageReference: LT-S5-5-TSOT-23; PackageDescription: 5-Lead Plastic TSOT-23, Body 1.63 x 2.90 mm, Pitch 0.95 mm; Supplier 1: Digi-Key; Supplier Part Number 1: LT1803IS5#TRM-ND; Packing: Mini Reel; Type: VFB; Mounting Technology: Surface Mount; Code_JEDEC: MO-193; ComponentLink1Description: Manufacturer URL; ComponentLink1URL: http://www.linear.com/; ComponentLink2Description: Datasheet; ComponentLink2URL: http://cds.linear.com/docs/en/datasheet/180345f.pdf; ComponentLink3Description: Package Specification; ComponentLink3URL: http://cds.linear.com/docs/en/packaging/SOT_5_05-08-1635.pdf
footprint LT-S5-5-TSOT-23_N (SOT23, 5-Leads, Body 2.90x1.63mm, Pitch 0.95mm, IPC Medium Density)
footprint LT-S5-5-TSOT-23_L (SOT23, 5-Leads, Body 2.90x1.63mm, Pitch 0.95mm, IPC High Density)
footprint LT-S5-5-TSOT-23_M (SOT23, 5-Leads, Body 2.90x1.63mm, Pitch 0.95mm, IPC Low Density)
pins: 1 VOUT (out) "Output.", 2 V- (power) "Negative Supply Voltage, Usually -5V.", 3 +IN (in) "Noninverting Input.", 4 -IN (in) "Inverting Input.", 5 V+ (power) "Positive Supply Voltage, Usually 5V."

## LT1803IS5#TRMPBF
designator U?
Single Channel, High Speed Precision Operational Amplifier, RRIO, 83 MHz Typical GBW, 100 V/us Typical SR, 2.3 to 12.6 V, 5-Pin SOT23 (S5-5), Industrial, Pb-Free, Mini Reel; Linear Technology Part Number: LT1803; Manufacturer: Linear Technology; PartNumber: LT1803IS5#TRMPBF; Channels (#): 1; GBW (MHz) Typical: 83; Is (mA) Typical: 2.7; SR (V/us) Typical: 100; Vos (mV) Guaranteed: 2; Vos (mV) Typical: 0.35; Vs Max (V): 12.6; Vs Min (V): 2.3; PackageReference: LT-S5-5-TSOT-23; PackageDescription: 5-Lead Plastic TSOT-23, Body 1.63 x 2.90 mm, Pitch 0.95 mm; Supplier 1: Digi-Key; Supplier Part Number 1: LT1803IS5#TRMPBF-ND; Packing: Mini Reel; RoHS: Pb-Free; Type: VFB; Mounting Technology: Surface Mount; Code_JEDEC: MO-193; ComponentLink1Description: Manufacturer URL; ComponentLink1URL: http://www.linear.com/; ComponentLink2Description: Datasheet; ComponentLink2URL: http://cds.linear.com/docs/en/datasheet/180345f.pdf; ComponentLink3Description: Package Specification; ComponentLink3URL: http://cds.linear.com/docs/en/packaging/SOT_5_05-08-1635.pdf
footprint LT-S5-5-TSOT-23_N (SOT23, 5-Leads, Body 2.90x1.63mm, Pitch 0.95mm, IPC Medium Density)
footprint LT-S5-5-TSOT-23_L (SOT23, 5-Leads, Body 2.90x1.63mm, Pitch 0.95mm, IPC High Density)
footprint LT-S5-5-TSOT-23_M (SOT23, 5-Leads, Body 2.90x1.63mm, Pitch 0.95mm, IPC Low Density)
pins: 1 VOUT (out) "Output.", 2 V- (power) "Negative Supply Voltage, Usually -5V.", 3 +IN (in) "Noninverting Input.", 4 -IN (in) "Inverting Input.", 5 V+ (power) "Positive Supply Voltage, Usually 5V."

## LT1803IS5#TRPBF
designator U?
Single Channel, High Speed Precision Operational Amplifier, RRIO, 83 MHz Typical GBW, 100 V/us Typical SR, 2.3 to 12.6 V, 5-Pin SOT23 (S5-5), Industrial, Pb-Free, Reel; Linear Technology Part Number: LT1803; Manufacturer: Linear Technology; PartNumber: LT1803IS5#TRPBF; Channels (#): 1; GBW (MHz) Typical: 83; Is (mA) Typical: 2.7; SR (V/us) Typical: 100; Vos (mV) Guaranteed: 2; Vos (mV) Typical: 0.35; Vs Max (V): 12.6; Vs Min (V): 2.3; PackageReference: LT-S5-5-TSOT-23; PackageDescription: 5-Lead Plastic TSOT-23, Body 1.63 x 2.90 mm, Pitch 0.95 mm; Supplier 1: Digi-Key; Supplier Part Number 1: LT1803IS5#TRPBF-ND; Supplier 2: Newark; Supplier Part Number 2: 57M6781; Packing: Reel; RoHS: Pb-Free; Type: VFB; Mounting Technology: Surface Mount; Code_JEDEC: MO-193; ComponentLink1Description: Manufacturer URL; ComponentLink1URL: http://www.linear.com/; ComponentLink2Description: Datasheet; ComponentLink2URL: http://cds.linear.com/docs/en/datasheet/180345f.pdf; ComponentLink3Description: Package Specification; ComponentLink3URL: http://cds.linear.com/docs/en/packaging/SOT_5_05-08-1635.pdf
footprint LT-S5-5-TSOT-23_N (SOT23, 5-Leads, Body 2.90x1.63mm, Pitch 0.95mm, IPC Medium Density)
footprint LT-S5-5-TSOT-23_L (SOT23, 5-Leads, Body 2.90x1.63mm, Pitch 0.95mm, IPC High Density)
footprint LT-S5-5-TSOT-23_M (SOT23, 5-Leads, Body 2.90x1.63mm, Pitch 0.95mm, IPC Low Density)
pins: 1 VOUT (out) "Output.", 2 V- (power) "Negative Supply Voltage, Usually -5V.", 3 +IN (in) "Noninverting Input.", 4 -IN (in) "Inverting Input.", 5 V+ (power) "Positive Supply Voltage, Usually 5V."

## LT1803IS8
designator U?
Single Channel, High Speed Precision Operational Amplifier, RRIO, 83 MHz Typical GBW, 100 V/us Typical SR, 2.3 to 12.6 V, 8-Pin SOIC (S8-8), Industrial; Linear Technology Part Number: LT1803; Manufacturer: Linear Technology; PartNumber: LT1803IS8; Channels (#): 1; GBW (MHz) Typical: 83; Is (mA) Typical: 2.7; SR (V/us) Typical: 100; Vos (mV) Guaranteed: 2; Vos (mV) Typical: 0.35; Vs Max (V): 12.6; Vs Min (V): 2.3; PackageVersion: Rev G; PackageReference: LT-S8-8; PackageDescription: 8-Pin Plastic Small Outline, Body 4.9 x 3.9 mm, Pitch 1.27 mm; Supplier 1: Digi-Key; Supplier Part Number 1: LT1803IS8-ND; Type: VFB; Mounting Technology: Surface Mount; ComponentLink1Description: Manufacturer URL; ComponentLink1URL: http://www.linear.com/; ComponentLink2Description: Datasheet; ComponentLink2URL: http://cds.linear.com/docs/en/datasheet/180345f.pdf; ComponentLink3Description: Package Specification; ComponentLink3URL: http://cds.linear.com/docs/en/packaging/05081610_G_SO8.pdf
footprint LT-S8-8_N (SOIC, 8-Leads, Body 4.9x3.9mm, Pitch 1.27mm, IPC Medium Density)
footprint LT-S8-8_L (SOIC, 8-Leads, Body 4.9x3.9mm, Pitch 1.27mm, IPC High Density)
footprint LT-S8-8_M (SOIC, 8-Leads, Body 4.9x3.9mm, Pitch 1.27mm, IPC Low Density)
part A pins: 2 -IN (in), 3 +IN (in), 4 V- (power), 6 VOUT (out), 7 V+ (power)
part B pins: 1 NC, 5 NC, 8 NC

## LT1803IS8#PBF
designator U?
Single Channel, High Speed Precision Operational Amplifier, RRIO, 83 MHz Typical GBW, 100 V/us Typical SR, 2.3 to 12.6 V, 8-Pin SOIC (S8-8), Industrial, Pb-Free; Linear Technology Part Number: LT1803; Manufacturer: Linear Technology; PartNumber: LT1803IS8#PBF; Channels (#): 1; GBW (MHz) Typical: 83; Is (mA) Typical: 2.7; SR (V/us) Typical: 100; Vos (mV) Guaranteed: 2; Vos (mV) Typical: 0.35; Vs Max (V): 12.6; Vs Min (V): 2.3; PackageVersion: Rev G; PackageReference: LT-S8-8; PackageDescription: 8-Pin Plastic Small Outline, Body 4.9 x 3.9 mm, Pitch 1.27 mm; Supplier 1: Digi-Key; Supplier Part Number 1: LT1803IS8#PBF-ND; RoHS: Pb-Free; Type: VFB; Mounting Technology: Surface Mount; ComponentLink1Description: Manufacturer URL; ComponentLink1URL: http://www.linear.com/; ComponentLink2Description: Datasheet; ComponentLink2URL: http://cds.linear.com/docs/en/datasheet/180345f.pdf; ComponentLink3Description: Package Specification; ComponentLink3URL: http://cds.linear.com/docs/en/packaging/05081610_G_SO8.pdf
footprint LT-S8-8_N (SOIC, 8-Leads, Body 4.9x3.9mm, Pitch 1.27mm, IPC Medium Density)
footprint LT-S8-8_L (SOIC, 8-Leads, Body 4.9x3.9mm, Pitch 1.27mm, IPC High Density)
footprint LT-S8-8_M (SOIC, 8-Leads, Body 4.9x3.9mm, Pitch 1.27mm, IPC Low Density)
part A pins: 2 -IN (in), 3 +IN (in), 4 V- (power), 6 VOUT (out), 7 V+ (power)
part B pins: 1 NC, 5 NC, 8 NC

## LT1803IS8#TR
designator U?
Single Channel, High Speed Precision Operational Amplifier, RRIO, 83 MHz Typical GBW, 100 V/us Typical SR, 2.3 to 12.6 V, 8-Pin SOIC (S8-8), Industrial, Reel; Linear Technology Part Number: LT1803; Manufacturer: Linear Technology; PartNumber: LT1803IS8#TR; Channels (#): 1; GBW (MHz) Typical: 83; Is (mA) Typical: 2.7; SR (V/us) Typical: 100; Vos (mV) Guaranteed: 2; Vos (mV) Typical: 0.35; Vs Max (V): 12.6; Vs Min (V): 2.3; PackageVersion: Rev G; PackageReference: LT-S8-8; PackageDescription: 8-Pin Plastic Small Outline, Body 4.9 x 3.9 mm, Pitch 1.27 mm; Supplier 1: Digi-Key; Supplier Part Number 1: LT1803IS8#TR-ND; Packing: Reel; Type: VFB; Mounting Technology: Surface Mount; ComponentLink1Description: Manufacturer URL; ComponentLink1URL: http://www.linear.com/; ComponentLink2Description: Datasheet; ComponentLink2URL: http://cds.linear.com/docs/en/datasheet/180345f.pdf; ComponentLink3Description: Package Specification; ComponentLink3URL: http://cds.linear.com/docs/en/packaging/05081610_G_SO8.pdf
footprint LT-S8-8_N (SOIC, 8-Leads, Body 4.9x3.9mm, Pitch 1.27mm, IPC Medium Density)
footprint LT-S8-8_L (SOIC, 8-Leads, Body 4.9x3.9mm, Pitch 1.27mm, IPC High Density)
footprint LT-S8-8_M (SOIC, 8-Leads, Body 4.9x3.9mm, Pitch 1.27mm, IPC Low Density)
part A pins: 2 -IN (in), 3 +IN (in), 4 V- (power), 6 VOUT (out), 7 V+ (power)
part B pins: 1 NC, 5 NC, 8 NC

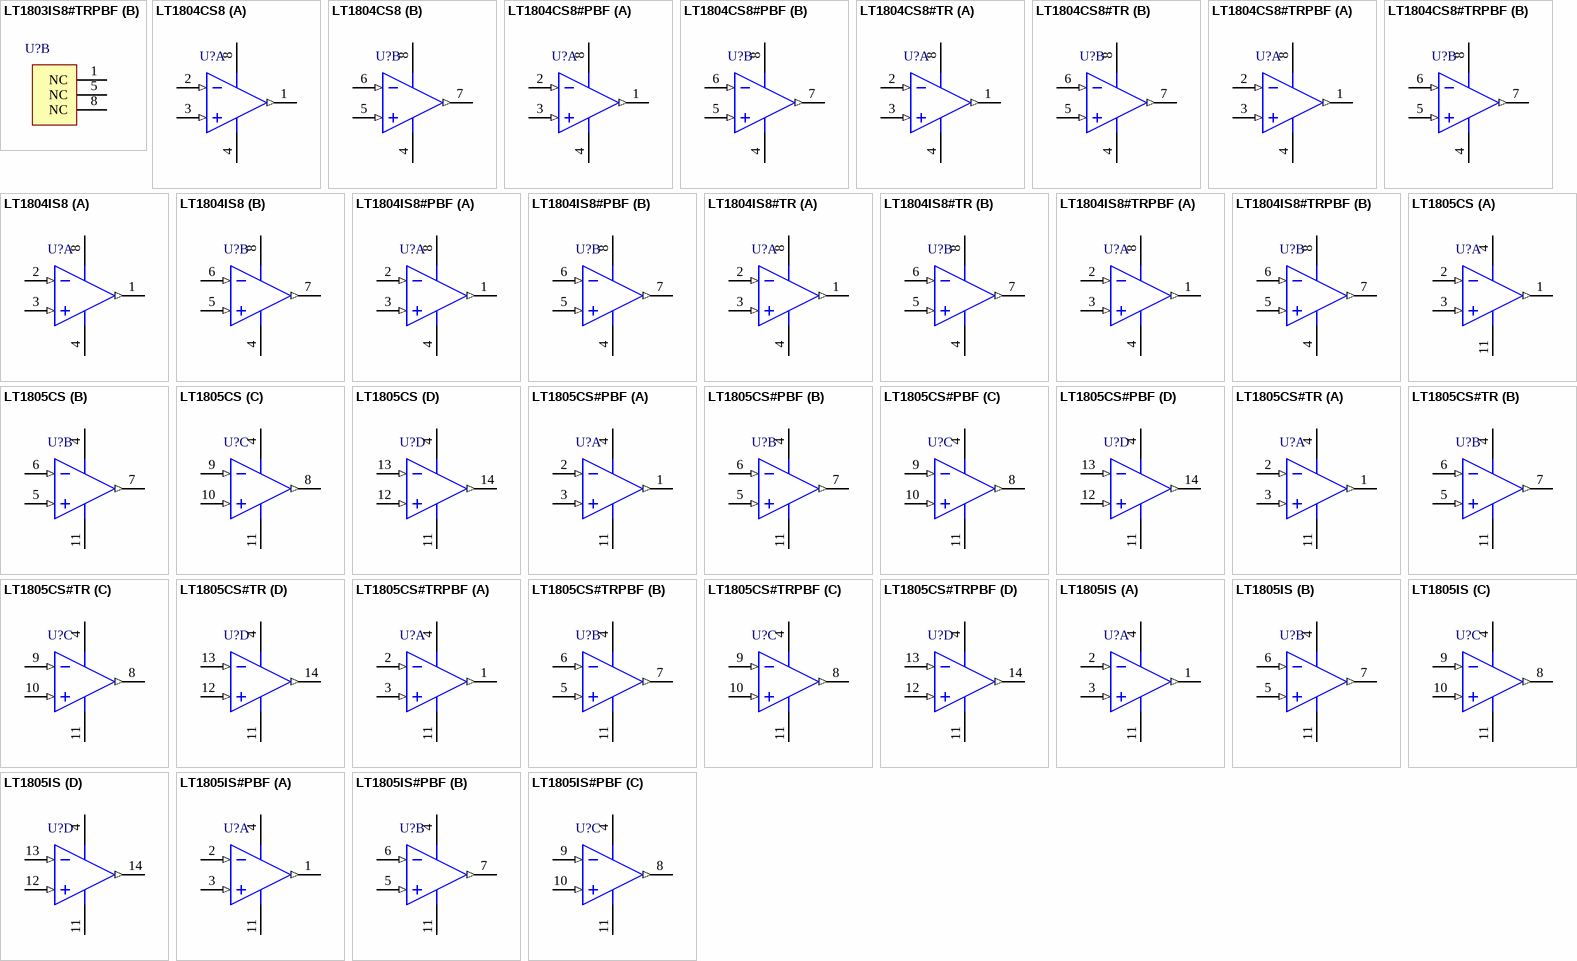
[diagram p78: symbols LT1803IS8#TRPBF to LT1805IS#PBF]

## LT1803IS8#TRPBF
designator U?
Single Channel, High Speed Precision Operational Amplifier, RRIO, 83 MHz Typical GBW, 100 V/us Typical SR, 2.3 to 12.6 V, 8-Pin SOIC (S8-8), Industrial, Pb-Free, Reel; Linear Technology Part Number: LT1803; Manufacturer: Linear Technology; PartNumber: LT1803IS8#TRPBF; Channels (#): 1; GBW (MHz) Typical: 83; Is (mA) Typical: 2.7; SR (V/us) Typical: 100; Vos (mV) Guaranteed: 2; Vos (mV) Typical: 0.35; Vs Max (V): 12.6; Vs Min (V): 2.3; PackageVersion: Rev G; PackageReference: LT-S8-8; PackageDescription: 8-Pin Plastic Small Outline, Body 4.9 x 3.9 mm, Pitch 1.27 mm; Supplier 1: Digi-Key; Supplier Part Number 1: LT1803IS8#TRPBF-ND; Packing: Reel; RoHS: Pb-Free; Type: VFB; Mounting Technology: Surface Mount; ComponentLink1Description: Manufacturer URL; ComponentLink1URL: http://www.linear.com/; ComponentLink2Description: Datasheet; ComponentLink2URL: http://cds.linear.com/docs/en/datasheet/180345f.pdf; ComponentLink3Description: Package Specification; ComponentLink3URL: http://cds.linear.com/docs/en/packaging/05081610_G_SO8.pdf
footprint LT-S8-8_N (SOIC, 8-Leads, Body 4.9x3.9mm, Pitch 1.27mm, IPC Medium Density)
footprint LT-S8-8_L (SOIC, 8-Leads, Body 4.9x3.9mm, Pitch 1.27mm, IPC High Density)
footprint LT-S8-8_M (SOIC, 8-Leads, Body 4.9x3.9mm, Pitch 1.27mm, IPC Low Density)
part A pins: 2 -IN (in), 3 +IN (in), 4 V- (power), 6 VOUT (out), 7 V+ (power)
part B pins: 1 NC, 5 NC, 8 NC

## LT1804CS8
designator U?
Dual Channel, High Speed Precision Operational Amplifier, RRIO, 83 MHz Typical GBW, 100 V/us Typical SR, 2.3 to 12.6 V, 8-Pin SOIC (S8-8), Commercial; Linear Technology Part Number: LT1804; Manufacturer: Linear Technology; PartNumber: LT1804CS8; Channels (#): 2; GBW (MHz) Typical: 83; Is (mA) Typical: 2.7; SR (V/us) Typical: 100; Vos (mV) Typical: 0.35; Vs Max (V): 12.6; Vs Min (V): 2.3; PackageVersion: Rev G; PackageReference: LT-S8-8; PackageDescription: 8-Pin Plastic Small Outline, Body 4.9 x 3.9 mm, Pitch 1.27 mm; Supplier 1: Digi-Key; Supplier Part Number 1: LT1804CS8-ND; Type: VFB; Vos (mV) Guaranteed: 2; Mounting Technology: Surface Mount; ComponentLink1Description: Manufacturer URL; ComponentLink1URL: http://www.linear.com/; ComponentLink2Description: Datasheet; ComponentLink2URL: http://cds.linear.com/docs/en/datasheet/180345f.pdf; ComponentLink3Description: Package Specification; ComponentLink3URL: http://cds.linear.com/docs/en/packaging/05081610_G_SO8.pdf
footprint LT-S8-8_N (SOIC, 8-Leads, Body 4.9x3.9mm, Pitch 1.27mm, IPC Medium Density)
footprint LT-S8-8_L (SOIC, 8-Leads, Body 4.9x3.9mm, Pitch 1.27mm, IPC High Density)
footprint LT-S8-8_M (SOIC, 8-Leads, Body 4.9x3.9mm, Pitch 1.27mm, IPC Low Density)
pins on every part: 4 V- (power), 8 V+ (power)
part A pins: 1 OUT A (out), 2 -IN A (in), 3 +IN A (in)
part B pins: 5 +IN B (in), 6 -IN B (in), 7 OUT B (out)

## LT1804CS8#PBF
designator U?
Dual Channel, High Speed Precision Operational Amplifier, RRIO, 83 MHz Typical GBW, 100 V/us Typical SR, 2.3 to 12.6 V, 8-Pin SOIC (S8-8), Commercial, Pb-Free; Linear Technology Part Number: LT1804; Manufacturer: Linear Technology; PartNumber: LT1804CS8#PBF; Channels (#): 2; GBW (MHz) Typical: 83; Is (mA) Typical: 2.7; SR (V/us) Typical: 100; Vos (mV) Typical: 0.35; Vs Max (V): 12.6; Vs Min (V): 2.3; PackageVersion: Rev G; PackageReference: LT-S8-8; PackageDescription: 8-Pin Plastic Small Outline, Body 4.9 x 3.9 mm, Pitch 1.27 mm; Supplier 1: Digi-Key; Supplier Part Number 1: LT1804CS8#PBF-ND; Supplier 2: Newark; Supplier Part Number 2: 57M6791; RoHS: Pb-Free; Type: VFB; Vos (mV) Guaranteed: 2; Mounting Technology: Surface Mount; ComponentLink1Description: Manufacturer URL; ComponentLink1URL: http://www.linear.com/; ComponentLink2Description: Datasheet; ComponentLink2URL: http://cds.linear.com/docs/en/datasheet/180345f.pdf; ComponentLink3Description: Package Specification; ComponentLink3URL: http://cds.linear.com/docs/en/packaging/05081610_G_SO8.pdf
footprint LT-S8-8_N (SOIC, 8-Leads, Body 4.9x3.9mm, Pitch 1.27mm, IPC Medium Density)
footprint LT-S8-8_L (SOIC, 8-Leads, Body 4.9x3.9mm, Pitch 1.27mm, IPC High Density)
footprint LT-S8-8_M (SOIC, 8-Leads, Body 4.9x3.9mm, Pitch 1.27mm, IPC Low Density)
pins on every part: 4 V- (power), 8 V+ (power)
part A pins: 1 OUT A (out), 2 -IN A (in), 3 +IN A (in)
part B pins: 5 +IN B (in), 6 -IN B (in), 7 OUT B (out)

## LT1804CS8#TR
designator U?
Dual Channel, High Speed Precision Operational Amplifier, RRIO, 83 MHz Typical GBW, 100 V/us Typical SR, 2.3 to 12.6 V, 8-Pin SOIC (S8-8), Commercial, Reel; Linear Technology Part Number: LT1804; Manufacturer: Linear Technology; PartNumber: LT1804CS8#TR; Channels (#): 2; GBW (MHz) Typical: 83; Is (mA) Typical: 2.7; SR (V/us) Typical: 100; Vos (mV) Typical: 0.35; Vs Max (V): 12.6; Vs Min (V): 2.3; PackageVersion: Rev G; PackageReference: LT-S8-8; PackageDescription: 8-Pin Plastic Small Outline, Body 4.9 x 3.9 mm, Pitch 1.27 mm; Supplier 1: Digi-Key; Supplier Part Number 1: LT1804CS8#TR-ND; Packing: Reel; Type: VFB; Vos (mV) Guaranteed: 2; Mounting Technology: Surface Mount; ComponentLink1Description: Manufacturer URL; ComponentLink1URL: http://www.linear.com/; ComponentLink2Description: Datasheet; ComponentLink2URL: http://cds.linear.com/docs/en/datasheet/180345f.pdf; ComponentLink3Description: Package Specification; ComponentLink3URL: http://cds.linear.com/docs/en/packaging/05081610_G_SO8.pdf
footprint LT-S8-8_N (SOIC, 8-Leads, Body 4.9x3.9mm, Pitch 1.27mm, IPC Medium Density)
footprint LT-S8-8_L (SOIC, 8-Leads, Body 4.9x3.9mm, Pitch 1.27mm, IPC High Density)
footprint LT-S8-8_M (SOIC, 8-Leads, Body 4.9x3.9mm, Pitch 1.27mm, IPC Low Density)
pins on every part: 4 V- (power), 8 V+ (power)
part A pins: 1 OUT A (out), 2 -IN A (in), 3 +IN A (in)
part B pins: 5 +IN B (in), 6 -IN B (in), 7 OUT B (out)

## LT1804CS8#TRPBF
designator U?
Dual Channel, High Speed Precision Operational Amplifier, RRIO, 83 MHz Typical GBW, 100 V/us Typical SR, 2.3 to 12.6 V, 8-Pin SOIC (S8-8), Commercial, Pb-Free, Reel; Linear Technology Part Number: LT1804; Manufacturer: Linear Technology; PartNumber: LT1804CS8#TRPBF; Channels (#): 2; GBW (MHz) Typical: 83; Is (mA) Typical: 2.7; SR (V/us) Typical: 100; Vos (mV) Typical: 0.35; Vs Max (V): 12.6; Vs Min (V): 2.3; PackageVersion: Rev G; PackageReference: LT-S8-8; PackageDescription: 8-Pin Plastic Small Outline, Body 4.9 x 3.9 mm, Pitch 1.27 mm; Supplier 1: Digi-Key; Supplier Part Number 1: LT1804CS8#TRPBF-ND; Supplier 2: Newark; Supplier Part Number 2: 57M6793; Packing: Reel; RoHS: Pb-Free; Type: VFB; Vos (mV) Guaranteed: 2; Mounting Technology: Surface Mount; ComponentLink1Description: Manufacturer URL; ComponentLink1URL: http://www.linear.com/; ComponentLink2Description: Datasheet; ComponentLink2URL: http://cds.linear.com/docs/en/datasheet/180345f.pdf; ComponentLink3Description: Package Specification; ComponentLink3URL: http://cds.linear.com/docs/en/packaging/05081610_G_SO8.pdf
footprint LT-S8-8_N (SOIC, 8-Leads, Body 4.9x3.9mm, Pitch 1.27mm, IPC Medium Density)
footprint LT-S8-8_L (SOIC, 8-Leads, Body 4.9x3.9mm, Pitch 1.27mm, IPC High Density)
footprint LT-S8-8_M (SOIC, 8-Leads, Body 4.9x3.9mm, Pitch 1.27mm, IPC Low Density)
pins on every part: 4 V- (power), 8 V+ (power)
part A pins: 1 OUT A (out), 2 -IN A (in), 3 +IN A (in)
part B pins: 5 +IN B (in), 6 -IN B (in), 7 OUT B (out)

## LT1804IS8
designator U?
Dual Channel, High Speed Precision Operational Amplifier, RRIO, 83 MHz Typical GBW, 100 V/us Typical SR, 2.3 to 12.6 V, 8-Pin SOIC (S8-8), Industrial; Linear Technology Part Number: LT1804; Manufacturer: Linear Technology; PartNumber: LT1804IS8; Channels (#): 2; GBW (MHz) Typical: 83; Is (mA) Typical: 2.7; SR (V/us) Typical: 100; Vos (mV) Typical: 0.35; Vs Max (V): 12.6; Vs Min (V): 2.3; PackageVersion: Rev G; PackageReference: LT-S8-8; PackageDescription: 8-Pin Plastic Small Outline, Body 4.9 x 3.9 mm, Pitch 1.27 mm; Supplier 1: Digi-Key; Supplier Part Number 1: LT1804IS8-ND; Type: VFB; Vos (mV) Guaranteed: 2; Mounting Technology: Surface Mount; ComponentLink1Description: Manufacturer URL; ComponentLink1URL: http://www.linear.com/; ComponentLink2Description: Datasheet; ComponentLink2URL: http://cds.linear.com/docs/en/datasheet/180345f.pdf; ComponentLink3Description: Package Specification; ComponentLink3URL: http://cds.linear.com/docs/en/packaging/05081610_G_SO8.pdf
footprint LT-S8-8_N (SOIC, 8-Leads, Body 4.9x3.9mm, Pitch 1.27mm, IPC Medium Density)
footprint LT-S8-8_L (SOIC, 8-Leads, Body 4.9x3.9mm, Pitch 1.27mm, IPC High Density)
footprint LT-S8-8_M (SOIC, 8-Leads, Body 4.9x3.9mm, Pitch 1.27mm, IPC Low Density)
pins on every part: 4 V- (power), 8 V+ (power)
part A pins: 1 OUT A (out), 2 -IN A (in), 3 +IN A (in)
part B pins: 5 +IN B (in), 6 -IN B (in), 7 OUT B (out)